# EAGLE library part ADS1120 (library ICs)
ADS1120 4-Channel, 2-kSPS, Low-Power, 16-Bit ADC with Integrated PGA and Reference
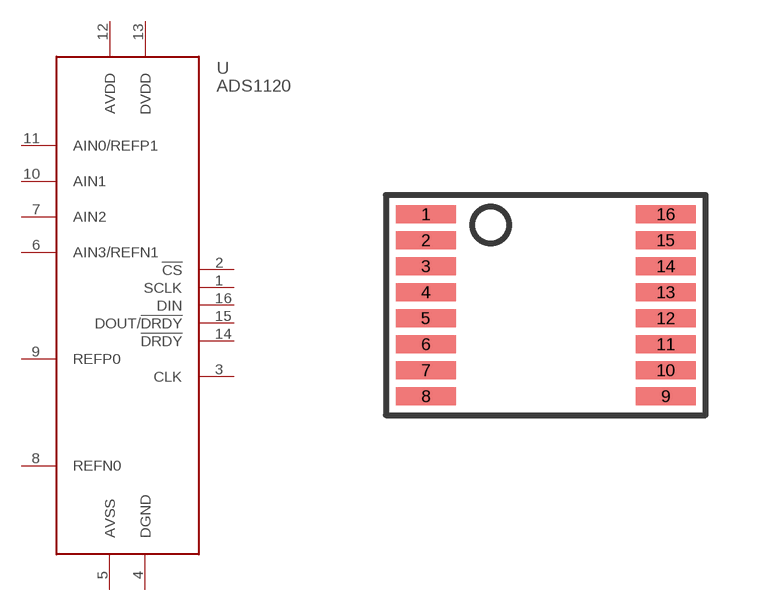
[diagram p225: symbol with the pads of TSSOP16; footprint TSSOP16]

Designator prefix U

## ADS1120 (DIGIKEY: 296-37280-1-ND; HEIGHT: 1; PRICE_PER: 5.25; VALUE: ADS1120)  [TSSOP16]
1  SCLK
2  !CS
3  CLK
4  DGND
5  AVSS
6  AIN3/REFN1
7  AIN2
8  REFN0
9  REFP0
10  AIN1
11  AIN0/REFP1
12  AVDD
13  DVDD
14  !DRDY
15  DOUT/!DRDY
16  DIN

## Footprint TSSOP16 (pad centres in mm)
smd 1.5 x 0.45: 1 -3,2.275; 2 -3,1.625; 3 -3,0.975; 4 -3,0.325; 5 -3,-0.325; 6 -3,-0.975; 7 -3,-1.625; 8 -3,-2.275; 9 3,-2.275; 10 3,-1.625; 11 3,-0.975; 12 3,-0.325; 13 3,0.325; 14 3,0.975; 15 3,1.625; 16 3,2.275